# Altium schematic symbol library SCH - OPAMP - ANALOG ADA4945.SCHLIB: 1 symbol
Pins are listed as number, name and electrical type; pins without a type are passive.

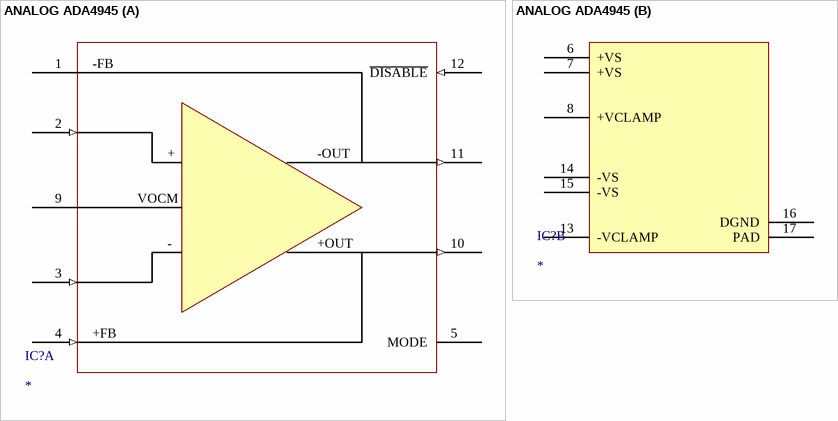
[diagram p0: symbol ANALOG ADA4945]

## ANALOG ADA4945
designator IC?
part A pins: 1 -FB, 2 + (in), 3 - (in), 4 +FB (in), 5 MODE, 9 VOCM, 10 +OUT (out), 11 -OUT (out), 12 ~{DISABLE} (in)
part B pins: 6 +VS (power), 7 +VS (power), 8 +VCLAMP, 13 -VCLAMP, 14 -VS (power), 15 -VS (power), 16 DGND (power), 17 PAD (power)